# EAGLE library part MA6-2 (library con-edge-156)
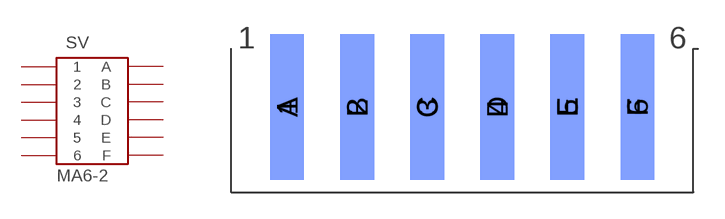
[diagram p2: symbol with the pads of MA6-2; footprint MA6-2]

Designator prefix SV

## MA6-2  [MA6-2]
1  1  pas
2  2  pas
3  3  pas
4  4  pas
5  5  pas
6  6  pas
A  A  pas
B  B  pas
C  C  pas
D  D  pas
E  E  pas
F  F  pas

## Footprint MA6-2 (pad centres in mm)
smd 1.905 x 8.255: 1 -9.906,-0.254; 2 -5.944,-0.254; 3 -1.981,-0.254; 4 1.981,-0.254; 5 5.944,-0.254; 6 9.906,-0.254
smd 1.905 x 8.255 bottom: A -9.906,-0.254; B -5.944,-0.254; C -1.981,-0.254; D 1.981,-0.254; E 5.944,-0.254; F 9.906,-0.254